# Altium schematic symbol library LT1716IS5PBF Op-Amp.SchLib: 1 symbol
Pins are listed as number, name and electrical type; pins without a type are passive.

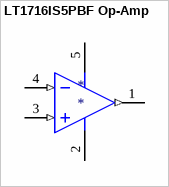
[diagram p0: symbol LT1716IS5PBF Op-Amp]

## LT1716IS5PBF Op-Amp
designator *
pins: 1 OUT (out), 2 V- (power), 3 IN+ (in), 4 IN- (in), 5 V+ (power)